# Altium footprint library PcbLib1.PcbLib: 2 footprints
Each footprint in its own frame and in the unit in brackets; x right, y up, seen from the top. Pads: shape width x height; smd on the part's side, far side on the other; paste and mask are expansions set on the pad; w line width, h text height; cw(c..) or ccw(c..) is an arc to the next point about the centre after c.
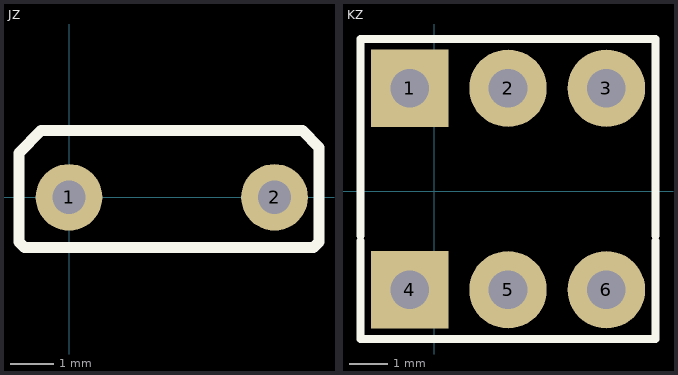
[diagram p0: the footprints below, top view; thin cyan lines are the x and y axes]

## JZ [mil]
pads (2):
  round 60 hole 30: 1(0,0) 2(185,0)
Top Overlay:
  lines w10: -45,-40 -45,40 -25,60 210,60 225,45 225,-40 220,-45 -40,-45 -45,-40

## KZ [mm]
pads (6):
  rect 2x2 hole 1: 1(-0.635,2.667) 4(-0.635,-2.54)
  round 2 hole 1: 2(1.905,2.667) 3(4.445,2.667) 5(1.905,-2.54) 6(4.445,-2.54)
Top Overlay:
  lines w0.2: -1.905,-1.27 -1.905,-3.81 5.715,-3.81 5.715,-1.27 ; -1.905,-1.143 -1.905,1.397 -1.905,3.937 5.715,3.937 5.715,1.397 5.715,-1.143